# EAGLE library part CON_SUBD_15 (library Radicon_connectors)
SUBD15F Connector
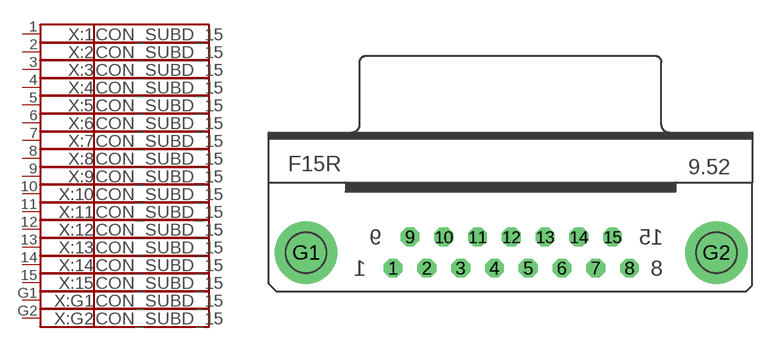
[diagram p7: symbol with the pads of F15HP; footprint F15HP]

Designator prefix X; gates :1=CON_PIN :2=CON_PIN :3=CON_PIN :4=CON_PIN :5=CON_PIN :6=CON_PIN :7=CON_PIN :8=CON_PIN :9=CON_PIN :10=CON_PIN :11=CON_PIN :12=CON_PIN :13=CON_PIN :14=CON_PIN :15=CON_PIN :G1=CON_PIN :G2=CON_PIN

## CON_SUBD_15  [F15HP]
1  :1:1
2  :2:1
3  :3:1
4  :4:1
5  :5:1
6  :6:1
7  :7:1
8  :8:1
9  :9:1
10  :10:1
11  :11:1
12  :12:1
13  :13:1
14  :14:1
15  :15:1
G1  :G1:1
G2  :G2:1

## Footprint F15HP (pad centres in mm)
SUB-D
drill 1.016 octagon: 1 -9.601,-1.27; 2 -6.858,-1.27; 3 -4.115,-1.27; 4 -1.372,-1.27; 5 1.372,-1.27; 6 4.115,-1.27; 7 6.858,-1.27; 8 9.601,-1.27; 9 -8.23,1.27; 10 -5.486,1.27; 11 -2.743,1.27; 12 0,1.27; 13 2.743,1.27; 14 5.486,1.27; 15 8.23,1.27
drill 3.302 pad 5.08: G1 -16.662,0; G2 16.662,0